# Altium footprint library micro32.PcbLib: 1 footprints
Each footprint in its own frame and in the unit in brackets; x right, y up, seen from the top. Pads: shape width x height; smd on the part's side, far side on the other; paste and mask are expansions set on the pad; w line width, h text height; cw(c..) or ccw(c..) is an arc to the next point about the centre after c.
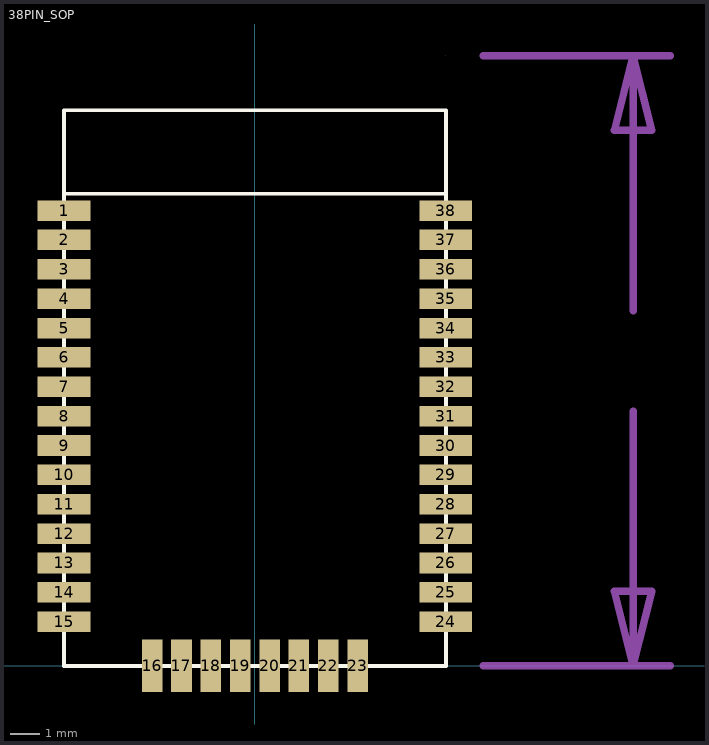
[diagram p0: the footprint, top view; thin cyan lines are the x and y axes]

## 38PIN_SOP [mm]
pads (38):
  rect 1.8x0.7 smd: 1(-6.5,15.506) 2(-6.5,14.506) 3(-6.5,13.506) 4(-6.5,12.506) 5(-6.5,11.506) 6(-6.5,10.506) 7(-6.5,9.506) 8(-6.5,8.506) 9(-6.5,7.506) 10(-6.5,6.506) 11(-6.5,5.506) 12(-6.5,4.506) 13(-6.5,3.506) 14(-6.5,2.506) 15(-6.5,1.506) 24(6.5,1.506) 25(6.5,2.506) 26(6.5,3.506) 27(6.5,4.506) 28(6.5,5.506) 29(6.5,6.506) 30(6.5,7.506) 31(6.5,8.506) 32(6.5,9.506) 33(6.5,10.506) 34(6.5,11.506) 35(6.5,12.506) 36(6.5,13.506) 37(6.5,14.506) 38(6.5,15.506)
  rect 0.7x1.8 smd: 16(-3.5,0.006) 17(-2.5,0.006) 18(-1.5,0.006) 19(-0.5,0.006) 20(0.5,0.006) 21(1.5,0.006) 22(2.5,0.006) 23(3.5,0.006)
Top Overlay:
  lines w0.127: -6.5,0 -6.5,18.923 6.505,18.923 6.505,0 -6.5,0 ; -6.5,0.006 -6.5,16.078 6.5,16.078 6.5,0.006 -6.5,0.006
Mechanical 22:
  lines w0.025: 6.505,0 6.505,0 ; 6.505,20.777 6.505,20.777
  lines w0.254: 7.775,0 14.15,0 ; 7.775,20.777 14.15,20.777 ; 12.88,8.674 12.88,0 ; 12.88,12.103 12.88,20.777 ; 12.88,0 13.515,2.54 12.245,2.54 12.88,0 ; 12.88,20.777 12.245,18.237 13.515,18.237 12.88,20.777